# EAGLE library part 632712000011 (library 629004113921_Eagle_WR-USB_rev20c)
WR-COM USB 3.1 Type C Plug Horizontal SMT 0.8 mm Kind Properties Durability:10 000 Mating cycles Quality Class:10 000 Mating cycles Connector Type:USB 3.1 Type C Gender:Plug Type:Horizontal General Information Operating Temperature:-25up to +105 °C Compliance:RoHS Electrical Properties IR 1:5A Working Voltage:20V (DC) Withstanding Voltage:100V (AC) Contact Resistance:30 mΩ Material Properties Insulator Material:LCP Insulator Flammability Rating:UL94 V-0 Color:Black Cover Material:Steel Cover Plating:Nickel Contact Material:Copper Alloy Contact Plating:2µ” Gold over 30µ” Pd-Ni Contact Type:Stamped <https://www.we-online.com/catalog/media/o144460v209%20Family_WR-COM_632712000011.jpg> Details see: https://www.we-online.com/catalog/en/COM_3_1_SMT_TYPE_C_PLUG_HORIZONTAL/ Updated by Yingchun, Shan 2020-01-17 2020 (C) Würth Elektronik
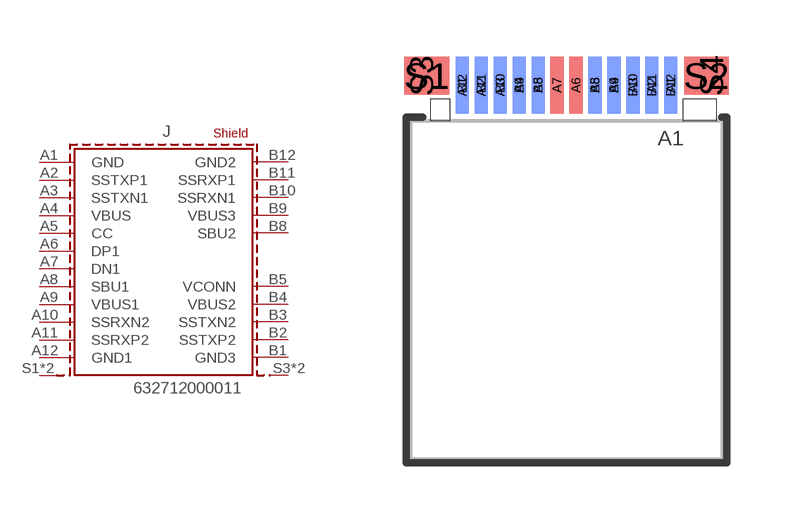
[diagram p4: symbol with the pads of 632712000011; footprint 632712000011]

Designator prefix J

## 632712000011 (APPLICATION: USB 3.1; DATASHEET-URL: https://www.we-online.com/catalog/datasheet/632712000011.pdf; GERDER: Plug; INTERFACE-TYPE: Type C; IR1: 5A; MOUNT: SMT; PACKAGING: Tape and Reel with Cap; PART-NUMBER: 632712000011; PINS: 22; TYPE: Horizontal; VALUE: 632712000011; WORKING-VOLTAGE: 20V(DC))  [632712000011]
A1  GND
A2  SSTXP1
A3  SSTXN1
A4  VBUS
A5  CC
A6  DP1
A7  DN1
A8  SBU1
A9  VBUS1
A10  SSRXN2
A11  SSRXP2
A12  GND1
B1  GND3
B2  SSTXP2
B3  SSTXN2
B4  VBUS2
B5  VCONN
B8  SBU2
B9  VBUS3
B10  SSRXN1
B11  SSRXP1
B12  GND2
S1  SHIELD
S2  SHIELD
S3  SHIELD1
S4  SHIELD1

## Footprint 632712000011 (pad centres in mm)
WR-COM USB 3.1 Type C Plug Horizontal SMT 0.8 mm
smd 0.35 x 1.5: A1 2.75,0; A2 2.25,0; A3 1.75,0; A4 1.25,0; A5 0.75,0; A6 0.25,0; A7 -0.25,0; A8 -0.75,0; A9 -1.25,0; A10 -1.75,0; A11 -2.25,0; A12 -2.75,0
smd 0.35 x 1.5 bottom: B1 -2.75,0; B2 -2.25,0; B3 -1.75,0; B4 -1.25,0; B5 -0.75,0; B8 0.75,0; B9 1.25,0; B10 1.75,0; B11 2.25,0; B12 2.75,0
smd 1.18 x 1: S1 -3.69,0.25; S2 3.69,0.25
smd 0.9 x 1 bottom: S3 -3.825,0.25; S4 3.825,0.25